# Altium schematic symbol library Connectors.SchLib: 2 symbols
Pins are listed as number, name and electrical type; pins without a type are passive.

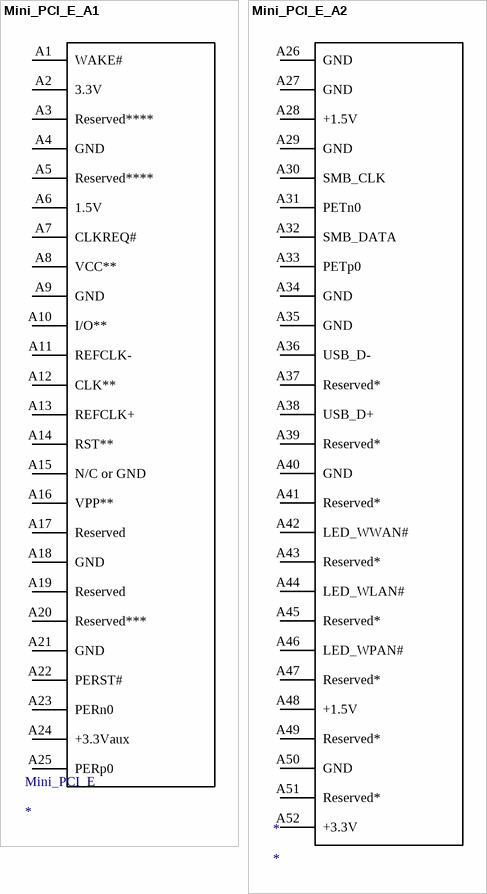
[diagram p0: symbols Mini_PCI_E_A1 to Mini_PCI_E_A2]

## Mini_PCI_E_A1
designator Mini_PCI_E
footprint Mini_PCI_E; pin to pad A1>1 A2>2 A3>3 A4>4 A5>5 A6>6 A7>7 A8>8 A9>9 A10>10 A11>11 A12>12 A13>13 A14>14 A15>15 A16>16 A17>17 A18>18 A19>19 A20>20 A21>21 A22>22 A23>23 A24>24 A25>25
pins: A1 WAKE#, A2 3.3V, A3 Reserved****, A4 GND, A5 Reserved****, A6 1.5V, A7 CLKREQ#, A8 VCC**, A9 GND, A10 I/O**, A11 REFCLK-, A12 CLK**, A13 REFCLK+, A14 RST**, A15 N/C or GND, A16 VPP**, A17 Reserved, A18 GND, A19 Reserved, A20 Reserved***, A21 GND, A22 PERST#, A23 PERn0, A24 +3.3Vaux, A25 PERp0

## Mini_PCI_E_A2
designator *
footprint Mini_PCI_E; pin to pad A26>26 A27>27 A28>28 A29>29 A30>30 A31>31 A32>32 A33>33 A34>34 A35>35 A36>36 A37>37 A38>38 A39>39 A40>40 A41>41 A42>42 A43>43 A44>44 A45>45 A46>46 A47>47 A48>48 A49>49 A50>50 A51>51 A52>52
pins: A26 GND, A27 GND, A28 +1.5V, A29 GND, A30 SMB_CLK, A31 PETn0, A32 SMB_DATA, A33 PETp0, A34 GND, A35 GND, A36 USB_D-, A37 Reserved*, A38 USB_D+, A39 Reserved*, A40 GND, A41 Reserved*, A42 LED_WWAN#, A43 Reserved*, A44 LED_WLAN#, A45 Reserved*, A46 LED_WPAN#, A47 Reserved*, A48 +1.5V, A49 Reserved*, A50 GND, A51 Reserved*, A52 +3.3V